# Altium footprint library 100uH_10A.PcbLib: 1 footprints
Each footprint in its own frame and in the unit in brackets; x right, y up, seen from the top. Pads: shape width x height; smd on the part's side, far side on the other; paste and mask are expansions set on the pad; w line width, h text height; cw(c..) or ccw(c..) is an arc to the next point about the centre after c.
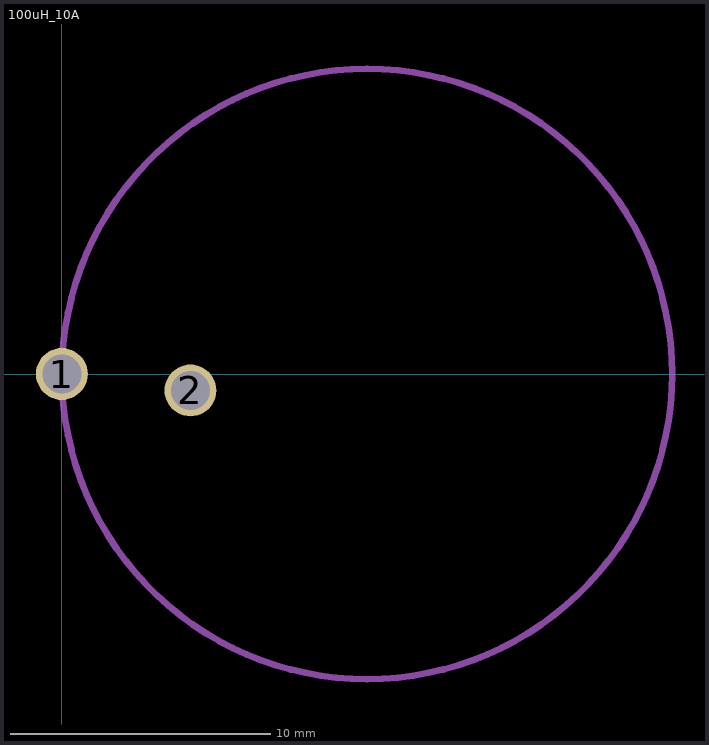
[diagram p0: the footprint, top view; thin cyan lines are the x and y axes]

## 100uH_10A [mm]
pads (2):
  round 2 hole 1.5: 1(0,0) 2(4.953,-0.635)
Mechanical 13:
  circle w0.254: c11.75,0 r11.75
3D body: height 8.9, standoff -2.23, extent -0.508,-12.152 22.321,10.628